# Altium footprint library relay.PcbLib: 2 footprints
Each footprint in its own frame and in the unit in brackets; x right, y up, seen from the top. Pads: shape width x height; smd on the part's side, far side on the other; paste and mask are expansions set on the pad; w line width, h text height; cw(c..) or ccw(c..) is an arc to the next point about the centre after c.
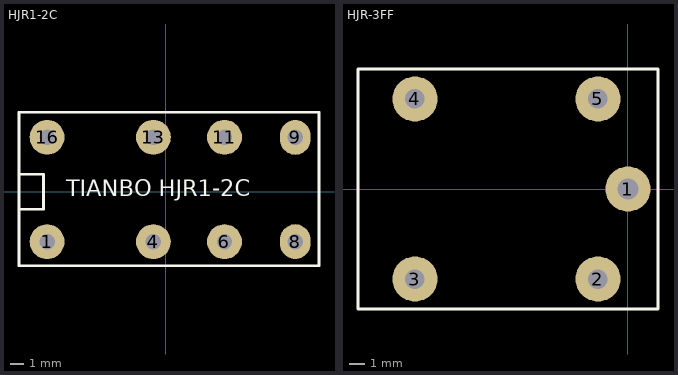
[diagram p0: the footprints below, top view; thin cyan lines are the x and y axes]

## HJR1-2C [mm] "Реле тип HJR1-2C. Две пары на замыкание, две пары на размыкание"
height 11.8
pads (8):
  round 2.5 hole 1.1: 1(-8.487,-3.575) 4(-0.869,-3.575) 6(4.225,-3.572) 11(4.225,3.91) 13(-0.867,3.91) 16(-8.486,3.911)
  oval 2.2x2.5 hole 1.1: 8(9.3,-3.575) 9(9.3,3.9)
Top Overlay:
  lines w0.2: -10.5,-1.25 -8.75,-1.25 -8.75,1.25 -10.5,1.25 ; -10.5,-5.3 -10.5,5.7 11,5.7 11,-5.3 -10.5,-5.3
  text "TIANBO HJR1-2C" at -7.1,-0.7 h2

## HJR-3FF [mm] "Реле тип HJR-3FF"
height 19.2
pads (5):
  round 3 hole 1.4: 1(0,0)
  round 3 hole 1.3: 2(-2,-6) 3(-14.2,-6) 4(-14.2,6) 5(-2,6)
Top Overlay:
  lines w0.2: -18,-8 -18,8 2,8 2,-8 -18,-8